# EAGLE library part M20-9980346 (library BadgeParts)
03+03 DIL Vertical Pin Header HARWIN M20 Series, 2.54mm Pitch 6 Way 2 Row Straight PCB Header, Solder Termination, 3A Source: Datasheet <https://cdn.harwin.com/pdfs/M20-998.pdf?utm_source=3D_PDF&utm_medium=3D_PDF&utm_campaign=3D_PDF>
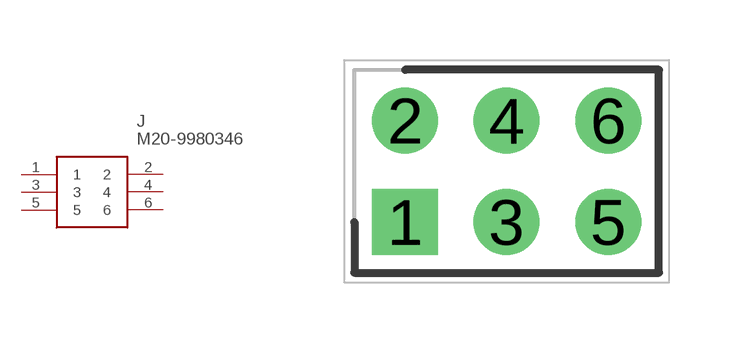
[diagram p5: symbol with the pads of HDRV6W64P254_2X3_762X508X868P; footprint HDRV6W64P254_2X3_762X508X868P]

Designator prefix J

## M20-9980346 (ARROW_PART_NUMBER: M20-9980346; ARROW_PRICE/STOCK: http://uk.rs-online.com/web/p/products/7457046P; DESCRIPTION: 03+03 DIL Vertical Pin Header HARWIN M20 Series, 2.54mm Pitch 6 Way 2 Row Straight PCB Header, Solder Termination, 3A; HEIGHT: 8.68mm; MANUFACTURER_NAME: HARWIN; MANUFACTURER_PART_NUMBER: M20-9980346; RS_PART_NUMBER: 7457046P; RS_PRICE/STOCK: http://uk.rs-online.com/web/p/products/7457046P)  [HDRV6W64P254_2X3_762X508X868P]
1  1
2  2
3  3
4  4
5  5
6  6

## Footprint HDRV6W64P254_2X3_762X508X868P (pad centres in mm)
M20-9980346
drill 1.1 pad 1.65 square: 1 0,0
drill 1.1 pad 1.65: 2 0,2.54; 3 2.54,0; 4 2.54,2.54; 5 5.08,0; 6 5.08,2.54